# Altium footprint library 12-Filters FB.PcbLib: 64 footprints (part 3 of 4)
Each footprint in its own frame and in the unit in brackets; x right, y up, seen from the top. Pads: shape width x height; smd on the part's side, far side on the other; paste and mask are expansions set on the pad; w line width, h text height; cw(c..) or ccw(c..) is an arc to the next point about the centre after c.
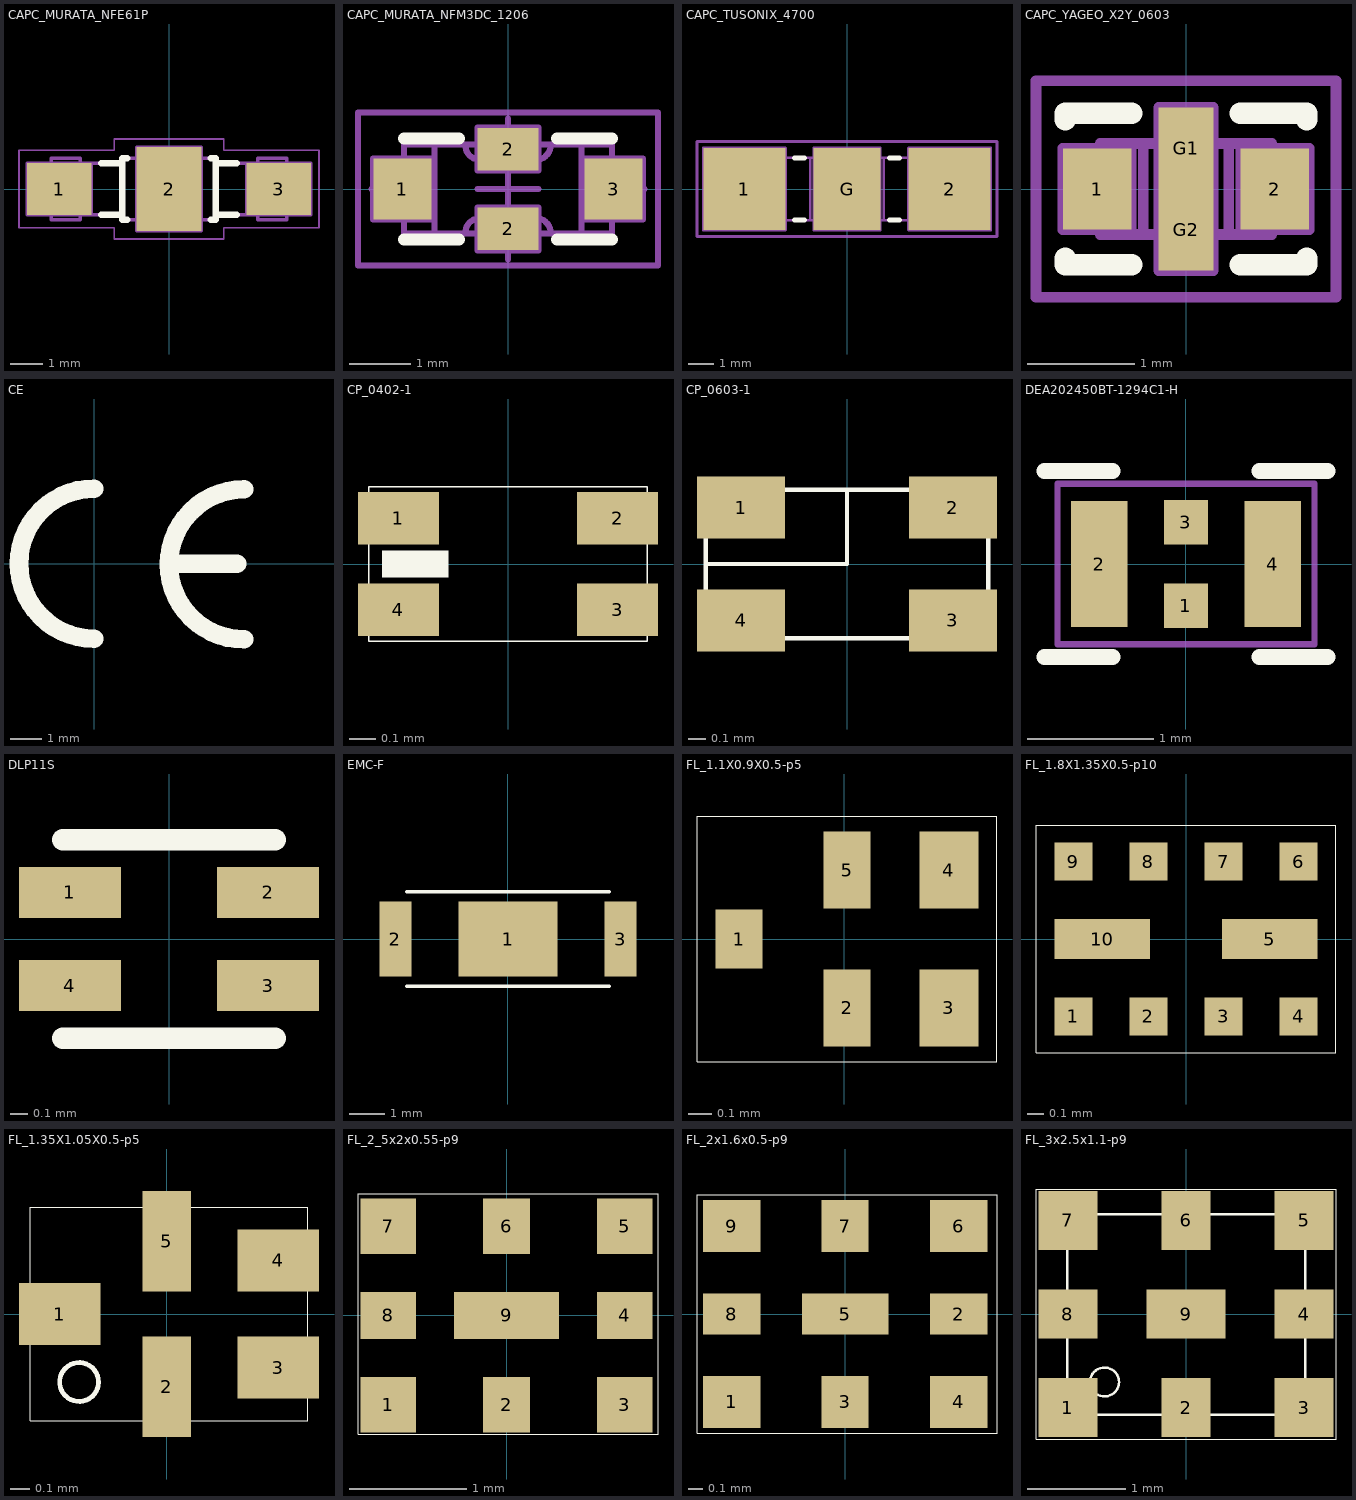
[diagram p2: the footprints below, top view; thin cyan lines are the x and y axes]

## CAPC_MURATA_NFE61P [mm] "EMI Filter, Body 6.8mm X 1.6mm, MURATA NFE61P Serie"
height 1.9
pads (3):
  rect 2x1.6 smd: 1(-3.4,0) 3(3.4,0)
  rect 2x2.6 smd: 2(0,0)
Top Overlay:
  lines w0.2: -2.1,-0.8 -1.45,-0.8 ; -2.1,0.8 -1.45,0.8 ; -1.3,-0.95 -1.45,-0.95 -1.45,0.95 -1.3,0.95 ; 1.3,-0.95 1.45,-0.95 1.45,0.95 1.3,0.95 ; 1.45,-0.8 2.1,-0.8 ; 1.45,0.8 2.1,0.8
Mechanical 8:
  lines w0.1: -3.9,0 -3.4,0 ; -3.4,-0.5 -3.4,0 ; -3.4,0.5 -3.4,0 ; -2.9,0 -3.4,0 ; -0.5,0 0,0 ; 0,-0.5 0,0 ; 0,0.5 0,0 ; 0.5,0 0,0 ; 2.9,0 3.4,0 ; 3.4,-0.5 3.4,0 ; 3.4,0.5 3.4,0 ; 3.9,0 3.4,0 ; -4.4,-0.8 -2.4,-0.8 -2.4,0.8 -4.4,0.8 -4.4,-0.8 ; -1,-1.3 1,-1.3 1,1.3 -1,1.3 -1,-1.3 ; 2.4,-0.8 4.4,-0.8 4.4,0.8 2.4,0.8 2.4,-0.8
Mechanical 14:
  lines w0.1: -2.75,-0.8 -1.45,-0.8 ; -2.75,0.8 -1.45,0.8 ; 1.45,-0.8 2.75,-0.8 ; 1.45,0.8 2.75,0.8 ; -3.65,-0.95 -3.65,0.95 -2.75,0.95 -2.75,-0.95 -3.65,-0.95 ; -1.45,-0.95 1.45,-0.95 1.45,0.95 -1.45,0.95 -1.45,-0.95 ; 2.75,-0.95 3.65,-0.95 3.65,0.95 2.75,0.95 2.75,-0.95
Mechanical 15:
  lines w0.05: -4.65,-1.2 -4.65,1.2 -1.7,1.2 -1.7,1.55 1.7,1.55 1.7,1.2 4.65,1.2 4.65,-1.2 1.7,-1.2 1.7,-1.55 -1.7,-1.55 -1.7,-1.2 -4.65,-1.2
3D body "CAPC_MURATA_NFE61P.stp": height 1.9, standoff 0, extent -3.65,-0.95 3.65,0.95

## CAPC_MURATA_NFM3DC_1206 [mm] "EMIFIL Chip Capacitor, Body 3.2x1.25mm, MURATA NFM3DC Serie"
height 0.9
pads (4):
  rect 0.95x1 smd: 1(-1.725,0) 3(1.725,0)
  rect 1x0.7 smd: 2(0,-0.65) 2(0,0.65)
Top Overlay:
  lines w0.2: -1.7,-0.825 -0.8,-0.825 ; -1.7,0.825 -0.8,0.825 ; 0.8,-0.825 1.7,-0.825 ; 0.8,0.825 1.7,0.825
Mechanical 8:
  lines w0.1: -2.225,0 -1.725,0 ; -1.725,-0.5 -1.725,0 ; -1.725,0.5 -1.725,0 ; -1.225,0 -1.725,0 ; -0.5,-0.65 0,-0.65 ; -0.5,0 0,0 ; -0.5,0.65 0,0.65 ; 0,-1.15 0,-0.65 ; 0,-0.5 0,0 ; 0,0.5 0,0 ; 0,1.15 0,0.65 ; 0.5,-0.65 0,-0.65 ; 0.5,0 0,0 ; 0.5,0.65 0,0.65 ; 1.225,0 1.725,0 ; 1.725,-0.5 1.725,0 ; 1.725,0.5 1.725,0 ; 2.225,0 1.725,0 ; -0.5,0.3 -0.5,1 0.5,1 0.5,0.3 ; -0.5,0.3 0.5,0.3 ; -0.5,0.3 0.5,0.3 ; -2.2,-0.5 -2.2,0.5 -1.25,0.5 -1.25,-0.5 -2.2,-0.5 ; -0.5,-1 0.5,-1 0.5,-0.3 -0.5,-0.3 -0.5,-1 ; 1.25,-0.5 1.25,0.5 2.2,0.5 2.2,-0.5 1.25,-0.5
Mechanical 14:
  lines w0.1: -1.2,-0.725 -1.2,0.725 ; -0.7,-0.725 cw(c-0.45,-0.725) -0.45,-0.475 0.45,-0.475 cw(c0.45,-0.725) 0.7,-0.725 ; -0.7,0.725 ccw(c-0.45,0.725) -0.45,0.475 0.45,0.475 ccw(c0.45,0.725) 0.7,0.725 ; 1.2,-0.725 1.2,0.725 ; -1.7,-0.725 -1.7,0.725 1.7,0.725 1.7,-0.725 -1.7,-0.725
Mechanical 15:
  lines w0.1: -2.45,-1.25 2.45,-1.25 2.45,1.25 -2.45,1.25 -2.45,-1.25
3D body "CAPC_MURATA_NFM3DC_1206.stp": height 0.9, standoff 0, extent -1.7,-0.725 1.7,0.725

## CAPC_TUSONIX_4700 [mm] "EMI/RFI Filter, Body 2.41mm X 8mm, TUSONIX 4700 Serie"
height 2.41
pads (3):
  rect 3.18x3.18 smd: 1(-3.975,0) 2(3.975,0)
  rect 2.59x3.18 smd: G(0,0)
Top Overlay:
  lines w0.2: -2.035,-1.205 -1.645,-1.205 ; -2.035,1.205 -1.645,1.205 ; 1.645,-1.205 2.035,-1.205 ; 1.645,1.205 2.035,1.205
Mechanical 8:
  lines w0.1: -4.475,0 -3.975,0 ; -3.975,-0.5 -3.975,0 ; -3.975,0.5 -3.975,0 ; -3.475,0 -3.975,0 ; -0.5,0 0,0 ; 0,-0.5 0,0 ; 0,0.5 0,0 ; 0.5,0 0,0 ; 3.475,0 3.975,0 ; 3.975,-0.5 3.975,0 ; 3.975,0.5 3.975,0 ; 4.475,0 3.975,0 ; -5.565,-1.59 -2.385,-1.59 -2.385,1.59 -5.565,1.59 -5.565,-1.59 ; -1.295,-1.59 -1.295,1.59 1.295,1.59 1.295,-1.59 -1.295,-1.59 ; 2.385,-1.59 5.565,-1.59 5.565,1.59 2.385,1.59 2.385,-1.59
Mechanical 14:
  lines w0.1: -3,-1.205 -3,1.205 ; -1.428,-1.205 -1.428,1.205 ; 1.428,-1.205 1.428,1.205 ; 3,-1.205 3,1.205 ; -4,-0.905 ccw(c-3.7,-0.905) -3.7,-1.205 3.7,-1.205 ccw(c3.7,-0.905) 4,-0.905 4,0.905 ccw(c3.7,0.905) 3.7,1.205 -3.7,1.205 ccw(c-3.7,0.905) -4,0.905 -4,-0.905
Mechanical 15:
  lines w0.1: -5.815,-1.84 -5.815,1.84 5.815,1.84 5.815,-1.84 -5.815,-1.84
3D body "CAPC_TUSONIX_4700.stp": height 2.41, standoff 0, extent -4,-1.205 4,1.205

## CAPC_YAGEO_X2Y_0603 [mm] "EMIFIL Chip Capacitor, Body 1.626x0.889mm, YAGEO 0603  X2Y Serie"
height 0.75
pads (4):
  rect 0.64x0.76 smd: 1(-0.83,0) 2(0.83,0)
  rect 0.51x0.76 smd: G1(0,0.38) G2(0,-0.38)
Top Overlay:
  lines w0.2: -1.127,-0.645 -1.127,-0.708 -0.505,-0.708 ; -1.127,0.645 -1.127,0.708 -0.505,0.708 ; 0.505,-0.708 1.127,-0.708 1.127,-0.645 ; 0.505,0.708 1.127,0.708 1.127,0.645
Mechanical 8:
  lines w0.1: -1.08,0 -0.83,0 ; -0.83,-0.25 -0.83,0 ; -0.83,0.25 -0.83,0 ; -0.58,0 -0.83,0 ; -0.25,0 0,0 ; 0,-0.25 0,0 ; 0,0.25 0,0 ; 0.25,0 0,0 ; 0.58,0 0.83,0 ; 0.83,-0.25 0.83,0 ; 0.83,0.25 0.83,0 ; 1.08,0 0.83,0 ; -1.15,-0.38 -0.51,-0.38 -0.51,0.38 -1.15,0.38 -1.15,-0.38 ; -0.255,-0.76 0.255,-0.76 0.255,0.76 -0.255,0.76 -0.255,-0.76 ; 0.51,-0.38 0.51,0.38 1.15,0.38 1.15,-0.38 0.51,-0.38
Mechanical 14:
  lines w0.1: -0.4,-0.425 -0.4,0.425 ; -0.2,-0.425 -0.2,-0.225 0.2,-0.225 0.2,-0.425 ; -0.2,0.425 -0.2,0.225 0.2,0.225 0.2,0.425 ; 0.4,-0.425 0.4,0.425 ; -0.8,-0.425 0.8,-0.425 0.8,0.425 -0.8,0.425 -0.8,-0.425
Mechanical 15:
  lines w0.1: -1.4,-1.01 -1.4,1.01 1.4,1.01 1.4,-1.01 -1.4,-1.01
3D body "CAPC_YAGEO_X2Y_0603.stp": height 0.75, standoff 0, extent -0.8,-0.425 0.8,0.425

## CE [mm]
Top Overlay:
  lines w0.6: 0,-2.413 cw(c0,0) 0,2.413 ; 2.53,0 4.6,0 ; 4.826,-2.438 cw(c4.826,-0.025) 4.826,2.388
3D body "ce.stp": height 0.02, standoff 0, extent -2.725,-2.725 4.82,2.725

## CP_0402-1 [mm] "ACX-1005"
height 0.75
pads (4):
  rect 0.31x0.2 smd mask+0.051: 1(-0.419,0.175) 2(0.419,0.175) 3(0.419,-0.175) 4(-0.419,-0.175)
Top Overlay:
  rectangle: -0.483,-0.051 -0.229,0.051
  lines w0.005: -0.533,-0.295 0.533,-0.295 0.533,0.295 -0.533,0.295 -0.533,-0.295
3D body "cp1005.stp": height 0.37, standoff 0, extent -0.5,-0.254 0.5,0.252

## CP_0603-1 [mm] "ACX-1608"
height 0.75
pads (4):
  rect 0.5x0.35 smd: 1(-0.6,0.32) 2(0.6,0.32) 3(0.6,-0.32) 4(-0.6,-0.32)
Top Overlay:
  lines w0.025: -0.8,0 0,0 0,0.42 ; -0.8,-0.42 -0.8,0.42 0.8,0.42 0.8,-0.42 -0.8,-0.42
3D body "cp1608.stp": height 0.6, standoff -0.01, extent -0.8,-0.434 0.8,0.406

## DEA202450BT-1294C1-H [mm]
height 0.75
pads (4):
  rect 0.35x0.35 smd: 1(0,-0.33) 3(0,0.33)
  rect 0.45x1 smd: 2(-0.686,0) 4(0.686,0)
Top Overlay:
  lines w0.127: -1.118,-0.737 -0.58,-0.737 ; -1.118,0.737 -0.58,0.737 ; 0.58,-0.737 1.118,-0.737 ; 0.58,0.737 1.118,0.737
Mechanical 15:
  lines w0.05: -1.016,-0.635 1.016,-0.635 1.016,0.635 -1.016,0.635 -1.016,-0.635
3D body "CAPC_YAGEO_X2Y_0603.stp": height 0.75, standoff 0, extent -0.8,-0.425 0.8,0.425

## DLP11S [mm]
height 0.75
pads (4):
  rect 0.6x0.3 smd mask+0.07: 1(-0.584,0.275) 2(0.584,0.275) 3(0.584,-0.275) 4(-0.584,-0.275)
Top Overlay:
  lines w0.127: -0.625,-0.584 0.625,-0.584 ; -0.625,0.584 0.625,0.584
3D body "dlp11s.stp": height 0.83, standoff 0, extent -0.635,-0.5 0.635,0.5

## EMC-F [mm]
height 0.75
pads (3):
  rect 2.8x2.1 smd: 1(0,0)
  rect 0.9x2.1 smd: 2(-3.175,0) 3(3.175,0)
Top Overlay:
  lines w0.1: -2.85,-1.325 2.85,-1.325 ; -2.85,1.325 2.85,1.325
3D body "0_9-2_1.stp": height 0.02, standoff 0, extent 2.725,-1.05 3.625,1.05
3D body "0_9-2_1.stp": height 0.02, standoff 0, extent -3.625,-1.05 -2.725,1.05
3D body "compornet.stp": height 1.63, standoff 0, extent -2.965,-0.816 2.965,0.816
3D body "2_8-2_1.stp": height 0.02, standoff 0, extent -1.4,-1.05 1.4,1.05

## FL_1.1X0.9X0.5-p5 [mm]
height 0.75
pads (5):
  rect 0.2x0.25 smd mask+0.051: 1(-0.445,0)
  rect 0.2x0.325 smd mask+0.051: 2(0.013,-0.292) 5(0.013,0.292)
  rect 0.25x0.325 smd mask+0.051: 3(0.445,-0.292) 4(0.445,0.292)
Top Overlay:
  lines w0.005: -0.622,-0.521 -0.622,0.521 0.648,0.521 0.648,-0.521 -0.622,-0.521
3D body "fl_1_1x0_9x0_5-5.stp": height 0.5, standoff 0, extent -0.533,-0.45 0.567,0.45

## FL_1.8X1.35X0.5-p10 [mm]
height 0.75
pads (10):
  rect 0.24x0.24 smd: 1(-0.705,-0.485) 2(-0.235,-0.485) 3(0.235,-0.485) 4(0.705,-0.485) 6(0.705,0.485) 7(0.235,0.485) 8(-0.235,0.485) 9(-0.705,0.485)
  rect 0.6x0.25 smd: 5(0.525,0) 10(-0.525,0)
Top Overlay:
  lines w0.005: -0.94,-0.711 -0.94,0.711 0.94,0.711 0.94,-0.711 -0.94,-0.711
3D body "fl_1_8x1_35x0-5-p10.stp": height 0.5, standoff 0, extent -0.911,-0.675 0.889,0.675

## FL_1.35X1.05X0.5-p5 [mm]
height 0.75
pads (5):
  rect 0.425x0.325 smd mask+0.051: 1(-0.559,0) 3(0.584,-0.28) 4(0.584,0.28)
  rect 0.254x0.525 smd mask+0.051: 2(0,-0.381) 5(0,0.381)
Top Overlay:
  circle w0.025: c-0.457,-0.356 r0.102
  lines w0.005: -0.711,-0.559 -0.711,0.559 0.737,0.559 0.737,-0.559 -0.711,-0.559
3D body "pl_1_35x1_05x0_5-p5.stp": height 0.5, standoff 0, extent -0.664,-0.525 0.686,0.525

## FL_2_5x2x0.55-p9 [mm]
height 0.75
pads (9):
  rect 0.475x0.475 smd: 1(-1.012,-0.763) 3(1.012,-0.763) 5(1.012,0.763) 7(-1.012,0.763)
  rect 0.4x0.475 smd: 2(0,-0.763) 6(0,0.763)
  rect 0.475x0.4 smd: 4(1.012,0) 8(-1.012,0)
  rect 0.9x0.4 smd: 9(0,0)
Top Overlay:
  lines w0.005: -1.27,-1.016 -1.27,1.041 1.295,1.041 1.295,-1.016 -1.27,-1.016
3D body "fl_2_5x2x0_55-9p.stp": height 0.55, standoff 0, extent -1.245,-0.991 1.255,1.009

## FL_2x1.6x0.5-p9 [mm]
height 0.75
pads (9):
  rect 0.405x0.365 smd: 1(-0.797,-0.617) 4(0.797,-0.617) 6(0.797,0.617) 9(-0.797,0.617)
  rect 0.405x0.29 smd: 2(0.797,0) 8(-0.797,0)
  rect 0.33x0.365 smd: 3(0,-0.617) 7(0,0.617)
  rect 0.61x0.29 smd: 5(0,0)
Top Overlay:
  lines w0.005: -1.041,-0.838 -1.041,0.838 1.067,0.838 1.067,-0.838 -1.041,-0.838
3D body "fl_2x1_6x0_55-p9.stp": height 0.55, standoff 0, extent -0.984,-0.8 1.016,0.8

## FL_3x2.5x1.1-p9 [mm]
height 0.75
pads (9):
  rect 0.6x0.6 smd mask+0.051: 1(-1.2,-0.95) 3(1.2,-0.95) 5(1.2,0.95) 7(-1.2,0.95)
  rect 0.5x0.6 smd mask+0.051: 2(0,-0.95) 6(0,0.95)
  rect 0.6x0.5 smd mask+0.051: 4(1.2,0) 8(-1.2,0)
  rect 0.8x0.5 smd mask+0.051: 9(0,0)
Top Overlay:
  circle w0.025: c-0.828,-0.691 r0.147
  lines w0.005: -1.524,-1.27 1.524,-1.27 1.524,1.27 -1.524,1.27 -1.524,-1.27
  lines w0.025: -1.206,0.793 cw(c-0.987,0.794) -0.988,1.013 ; -1.206,0.8 -1.206,-0.803 ccw(c-0.987,-0.802) -0.986,-1.021 ; -0.993,1.013 0.991,1.013 ; -0.988,-1.021 0.988,-1.021 ; 0.989,1.013 cw(c0.99,0.794) 1.209,0.795 1.209,-0.8 ; 0.991,-1.021 ccw(c0.99,-0.802) 1.209,-0.801
3D body "fl_3x2_5x1_1-p9.stp": height 1.1, standoff 0, extent -1.501,-1.25 1.499,1.25